# Altium footprint library 2019_10_ELEV_18_IO.PcbLib: 8 footprints
Each footprint in its own frame and in the unit in brackets; x right, y up, seen from the top. Pads: shape width x height; smd on the part's side, far side on the other; paste and mask are expansions set on the pad; w line width, h text height; cw(c..) or ccw(c..) is an arc to the next point about the centre after c.
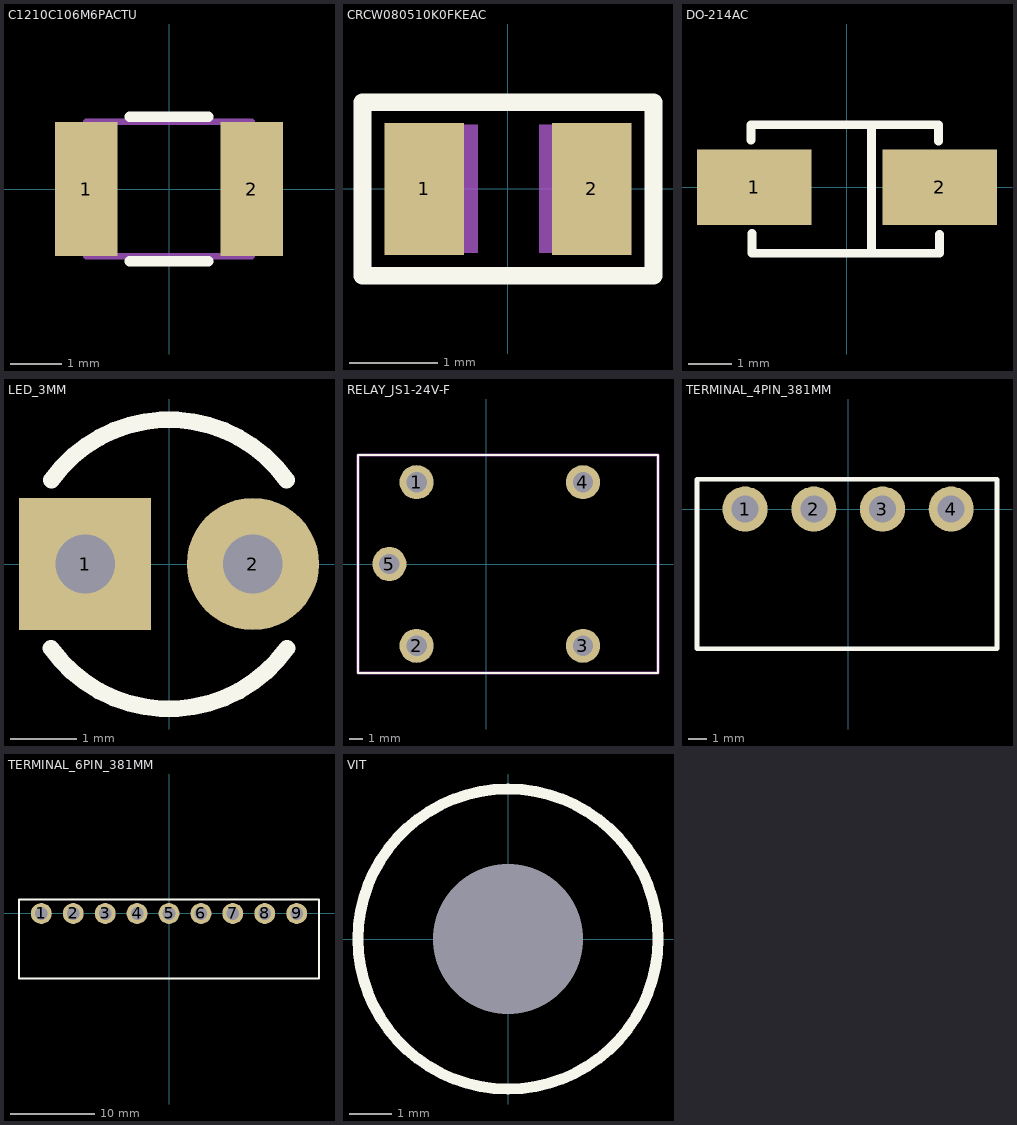
[diagram p0: the footprints below, top view; thin cyan lines are the x and y axes]

## C1210C106M6PACTU [mm] "Multilayer Ceramic Capacitors MLCC - SMD/SMT 35V 10uF X5R 1210 20%"
pads (2):
  rect 1.2x2.6 smd: 1(-1.6,0) 2(1.6,0)
Top Overlay:
  lines w0.203: -0.762,-1.397 0.762,-1.397 ; -0.762,1.397 0.762,1.397
Mechanical 4:
  lines w0.127: -1.6,-1.3 1.6,-1.3 -1.6,-1.3 ; -1.6,1.3 1.6,1.3 -1.6,1.3
3D body "User Library-CAPC3225X10.STEP": height 1, standoff 0, extent -1.6,-1.25 1.6,1.25

## CRCW080510K0FKEAC [mm] "Thick Film Resistors - SMD 1/8Watt 10Kohms 1%"
pads (2):
  rect 0.9x1.5 smd: 1(-0.95,0) 2(0.95,0)
Top Overlay:
  lines w0.203: -1.651,-0.983 -1.651,0.983 1.651,0.983 1.651,-0.983 -1.651,-0.983
Mechanical 4:
  region: -1.092,0.726 -0.342,0.726 -0.342,-0.724 -1.092,-0.724
  region: 0.356,0.726 1.106,0.726 1.106,-0.725 0.356,-0.725
  region: -1.092,0.726 -0.342,0.726 -0.342,-0.724 -1.092,-0.724
  region: 0.356,0.726 1.106,0.726 1.106,-0.725 0.356,-0.725
3D body "User Library-R SMD 0805.STEP": height 0.46, standoff 0.01, extent -1.126,-0.625 0.874,0.625

## DO-214AC [mm]
pads (2):
  rect 2.65x1.75 smd: 1(-2.15,0) 2(2.15,0)
Top Overlay:
  lines w0.203: -2.226,1.092 -2.226,1.448 2.117,1.448 2.117,1.067 ; -2.201,-1.067 -2.201,-1.524 2.143,-1.524 2.143,-1.092 ; 0.568,-1.499 0.568,1.448
3D body "User Library-S1G-1.STEP": height 2.7, standoff 0, extent -2.715,-1.526 2.885,1.424

## LED_3MM [mm]
pads (2):
  rect 2x2 hole 0.9: 1(-1.27,0)
  round 2 hole 0.9: 2(1.27,0)
Top Overlay:
  lines w0.254: -1.784,-1.274 ccw(c0,0) 1.784,-1.274 ; -1.778,1.27 cw(c0,0) 1.778,1.27
3D body "User Library-LED_d3-RED.STEP": height 4.98, standoff -2.5, extent -1.664,-1.653 1.55,1.644

## RELAY_JS1-24V-F [mm]
pads (5):
  round 2.5 hole 1.5: 1(-5.1,6) 2(-5.1,-6) 3(7.1,-6) 4(7.1,6) 5(-7.1,0)
Top Overlay:
  lines w0.127: -9.4,-8 12.6,-8 12.6,8 -9.4,8 -9.4,-8
Mechanical 4:
  lines w0.203: -9.4,-8 -9.4,8 ; -9.4,-8 12.6,-8 ; -9.4,-8 12.6,-8 ; -9.4,-8 -9.4,8 ; -9.4,8 12.6,8 ; -9.4,8 12.6,8 ; 12.6,-8 12.6,8 ; 12.6,-8 12.6,8
3D body "User Library-$RI3BFQW.STEP": height 15.8, standoff -2.9, extent -8.3,-7.9 11.5,7.9

## TERMINAL_4PIN_381MM [mm]
pads (4):
  round 2.5 hole 1.5: 1(-5.715,0) 2(-1.905,0) 3(1.905,0) 4(5.715,0)
Top Overlay:
  lines w0.254: -8.382,-7.747 8.255,-7.747 8.255,1.651 -8.382,1.651 -8.382,1.27 -8.382,-7.747
3D body "User Library-KEFA 3_81mm_4pin_RA.STEP": height 7.89, standoff -3.39, extent -8.315,-17.13 8.315,1.27

## TERMINAL_6PIN_381MM [mm]
pads (9):
  round 2.5 hole 1.5: 1(-15.24,0) 2(-11.43,0) 3(-7.62,0) 4(-3.81,0) 5(0,0) 6(3.81,0) 7(7.62,0) 8(11.43,0) 9(15.24,0)
Top Overlay:
  lines w0.254: -17.907,-7.747 -17.907,1.27 -17.907,1.651 -1.27,1.651 17.907,1.651 17.907,-7.747 -1.27,-7.747 -17.907,-7.747

## VIT [mm]
pads (1):
  round 0 hole 3.5: 1(0,0)
Top Overlay:
  circle w0.254: c0,0 r3.5